# EAGLE library part VNS1NV04DPTR-E (library IC_Power-Management)
OMNIFET II fully autoprotected Power MOSFET Datasheet <https://www.st.com/resource/en/datasheet/vns1nv04dp-e.pdf>
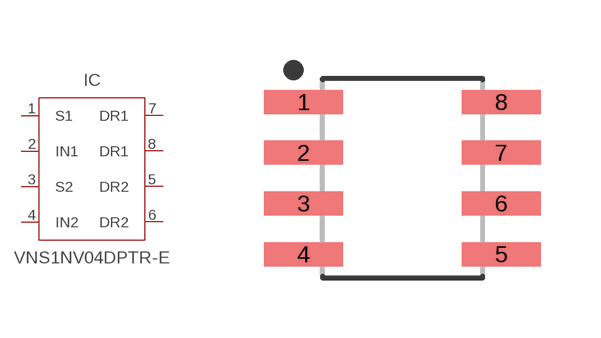
[diagram p6: symbol with the pads of SOIC127P600X175-8N; footprint SOIC127P600X175-8N]

Designator prefix IC

## VNS1NV04DPTR-ESO-8 (CATEGORY: IC_Power-Management; MANUFACTURER: ST Microelectronics; MPN: VNS1NV04DPTR-E; PART_STATUS: Active; ROHS_COMPLIANT: RoHS3 Compliant; SUB-CATEGORY: Driver; THERMALLOSS: 4W)  [SOIC127P600X175-8N]
1  S1  out
2  IN1  in
3  S2  out
4  IN2  in
5  DR2
6  DR2
7  DR1
8  DR1

## Footprint SOIC127P600X175-8N (pad centres in mm)
8-SOIC, 1.27 mm pitch, 6.00 mm span, 4.90 X 3.90 X 1.75 mm body 8-pin SOIC package with 1.27 mm pitch, 6.00 mm span with body size 4.90 X 3.90 X 1.75 mm
smd 1.968 x 0.599: 1 -2.473,1.905; 2 -2.473,0.635; 3 -2.473,-0.635; 4 -2.473,-1.905; 5 2.473,-1.905; 6 2.473,-0.635; 7 2.473,0.635; 8 2.473,1.905